# Altium footprint library HD_PCB_31.PcbLib: 26 footprints (part 2 of 2)
Each footprint in its own frame and in the unit in brackets; x right, y up, seen from the top. Pads: shape width x height; smd on the part's side, far side on the other; paste and mask are expansions set on the pad; w line width, h text height; cw(c..) or ccw(c..) is an arc to the next point about the centre after c.
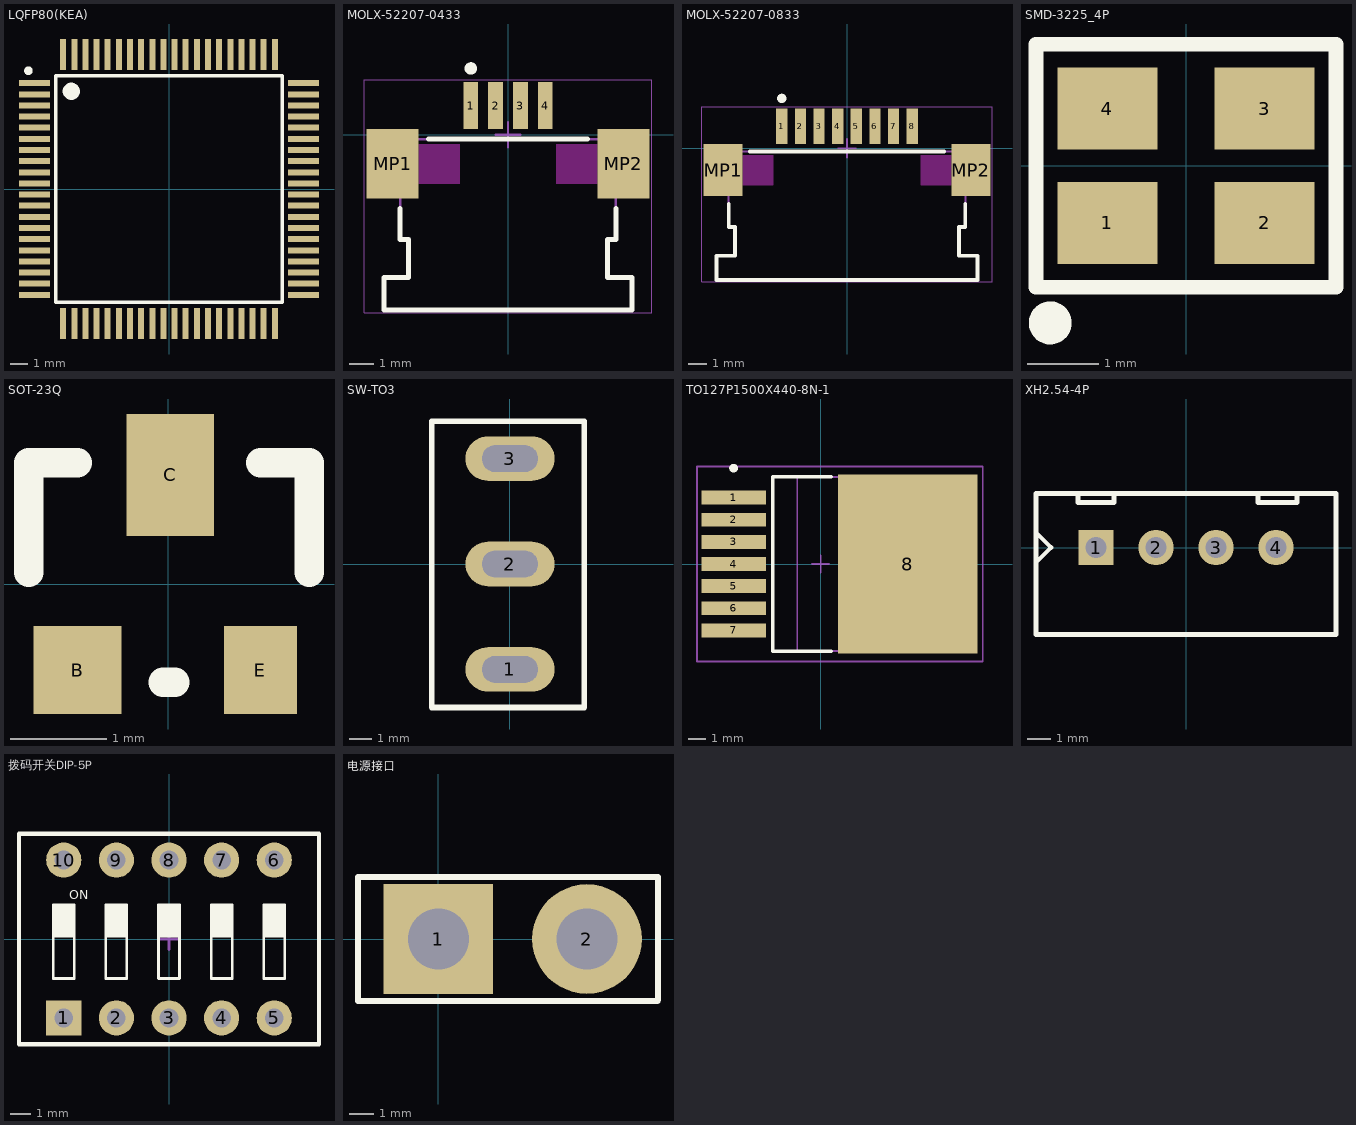
[diagram p1: the footprints below, top view; thin cyan lines are the x and y axes]

## LQFP80(KEA) [mm]
pads (80):
  rect 1.8x0.35 smd: 1(-7.85,6.175) 2(-7.85,5.525) 3(-7.85,4.875) 4(-7.85,4.225) 5(-7.85,3.575) 6(-7.85,2.925) 7(-7.85,2.275) 8(-7.85,1.625) 9(-7.85,0.975) 10(-7.85,0.325) 11(-7.85,-0.325) 12(-7.85,-0.975) 13(-7.85,-1.625) 14(-7.85,-2.275) 15(-7.85,-2.925) 16(-7.85,-3.575) 17(-7.85,-4.225) 18(-7.85,-4.875) 19(-7.85,-5.525) 20(-7.85,-6.175) 41(7.85,-6.175) 42(7.85,-5.525) 43(7.85,-4.875) 44(7.85,-4.225) 45(7.85,-3.575) 46(7.85,-2.925) 47(7.85,-2.275) 48(7.85,-1.625) 49(7.85,-0.975) 50(7.85,-0.325) 51(7.85,0.325) 52(7.85,0.975) 53(7.85,1.625) 54(7.85,2.275) 55(7.85,2.925) 56(7.85,3.575) 57(7.85,4.225) 58(7.85,4.875) 59(7.85,5.525) 60(7.85,6.175)
  rect 0.35x1.8 smd: 21(-6.175,-7.85) 22(-5.525,-7.85) 23(-4.875,-7.85) 24(-4.225,-7.85) 25(-3.575,-7.85) 26(-2.925,-7.85) 27(-2.275,-7.85) 28(-1.625,-7.85) 29(-0.975,-7.85) 30(-0.325,-7.85) 31(0.325,-7.85) 32(0.975,-7.85) 33(1.625,-7.85) 34(2.275,-7.85) 35(2.925,-7.85) 36(3.575,-7.85) 37(4.225,-7.85) 38(4.875,-7.85) 39(5.525,-7.85) 40(6.175,-7.85) 61(6.175,7.85) 62(5.525,7.85) 63(4.875,7.85) 64(4.225,7.85) 65(3.575,7.85) 66(2.925,7.85) 67(2.275,7.85) 68(1.625,7.85) 69(0.975,7.85) 70(0.325,7.85) 71(-0.325,7.85) 72(-0.975,7.85) 73(-1.625,7.85) 74(-2.275,7.85) 75(-2.925,7.85) 76(-3.575,7.85) 77(-4.225,7.85) 78(-4.875,7.85) 79(-5.525,7.85) 80(-6.175,7.85)
Top Overlay:
  circle w0.5: c-5.7,5.7 r0.25
  circle w0.25: c-8.2,6.9 r0.125
  lines w0.2: -6.6,-6.6 -6.6,6.6 6.6,6.6 6.6,-6.6 -6.6,-6.6
3D body "LQFP-80 14x14.STEP": height 1.5, standoff -0.09, extent -7.976,-8.008 8.034,8.001

## MOLX-52207-0433 [mm] "FPC Connector, 4-Leads, Right Angle, Pitch 1.0 mm, Mated Height 2.7 mm, SMT"
height 2.712
pads (6):
  rect 0.6x1.9 smd: 1(-1.5,1.175) 2(-0.5,1.175) 3(0.5,1.175) 4(1.5,1.175)
  rect 2.1x2.8 smd: MP1(-4.65,-1.175) MP2(4.65,-1.175)
Top Overlay:
  circle w0.25: c-1.5,2.675 r0.125
  lines w0.2: -4.35,-2.975 -4.35,-4.225 ; -3.2,-0.175 3.2,-0.175 ; 4.35,-2.975 4.35,-4.225 ; -4.35,-4.225 -4.013,-4.225 -4.012,-4.225 -4.012,-5.765 -5,-5.765 -5,-7.075 5,-7.075 5,-5.765 4.012,-5.765 4.012,-4.225 ; -4.35,-4.225 -4.35,-4.225 ; 4.013,-4.225 4.35,-4.225 ; 4.012,-4.225 4.013,-4.225 ; 4.35,-4.225 4.35,-4.225
Keep-Out Layer:
  region: -3.6,-0.375 -1.95,-0.375 -1.95,-1.975 -3.6,-1.975
  region: 3.6,-0.375 1.95,-0.375 1.95,-1.975 3.6,-1.975
Mechanical 13:
  lines w0.1: -5.15,-2.175 -5.15,-0.175 5.15,-0.175 5.15,-2.175 4.35,-2.175 4.35,-4.225 4.012,-4.225 4.012,-5.765 5,-5.765 5,-7.075 -5,-7.075 -5,-5.765 -4.012,-5.765 -4.012,-4.225 -4.35,-4.225 -4.35,-2.175 -5.15,-2.175
Mechanical 15:
  lines w0.05: -5.8,-7.175 -5.8,2.225 5.8,2.225 5.8,-7.175 -5.8,-7.175
  lines w0.1: -0.5,0 0.5,0 ; 0,-0.5 0,0.5
3D body "522070433.stp": height 2.71, standoff 0.01, extent -5.15,-7.075 5.15,1.825

## MOLX-52207-0833 [mm] "FPC Connector, 8-Leads, Right Angle, Pitch 1.0 mm, Mated Height 2.7 mm, SMT"
height 2.712
pads (10):
  rect 0.6x1.9 smd: 1(-3.5,1.175) 2(-2.5,1.175) 3(-1.5,1.175) 4(-0.5,1.175) 5(0.5,1.175) 6(1.5,1.175) 7(2.5,1.175) 8(3.5,1.175)
  rect 2.1x2.8 smd: MP1(-6.65,-1.175) MP2(6.65,-1.175)
Top Overlay:
  circle w0.25: c-3.5,2.675 r0.125
  lines w0.2: -6.35,-2.975 -6.35,-4.225 -6.013,-4.225 -6.012,-5.765 -7,-5.765 -7,-7.075 7,-7.075 7,-5.765 6.012,-5.765 6.012,-4.225 6.35,-4.225 6.35,-2.975 ; -5.2,-0.175 5.2,-0.175
Keep-Out Layer:
  region: -5.6,-0.375 -3.95,-0.375 -3.95,-1.975 -5.6,-1.975
  region: 5.6,-0.375 3.95,-0.375 3.95,-1.975 5.6,-1.975
Mechanical 13:
  lines w0.1: -7.15,-2.175 -7.15,-0.175 7.15,-0.175 7.15,-2.175 6.35,-2.175 6.35,-4.225 6.012,-4.225 6.012,-5.765 7,-5.765 7,-7.075 -7,-7.075 -7,-5.765 -6.012,-5.765 -6.012,-4.225 -6.35,-4.225 -6.35,-2.175 -7.15,-2.175
Mechanical 15:
  lines w0.05: -7.8,-7.175 -7.8,2.225 7.8,2.225 7.8,-7.175 -7.8,-7.175
  lines w0.1: -0.5,0 0.5,0 ; 0,-0.5 0,0.5
3D body "522070833.stp": height 2.71, standoff 0.01, extent -7.15,-7.075 7.15,1.825

## SMD-3225_4P [mm]
pads (4):
  rect 1.4x1.15 smd: 1(-1.1,-0.8) 2(1.1,-0.8) 3(1.1,0.8) 4(-1.1,0.8)
Top Overlay:
  circle w0.3: c-1.9,-2.2 r0.15
  lines w0.203: -2.1,-1.7 2.1,-1.7 2.1,1.7 -2.1,1.7 -2.1,-1.7
3D body "User Library-3225-1.STEP": height 0.61, standoff 0, extent -1.6,-1.25 1.6,1.25

## SOT-23Q [mil]
pads (3):
  rect 36x36 smd: B(-37.25,-35.28)
  rect 36x50 smd: C(0.75,44.72)
  rect 30x36 smd: E(37.75,-35.28)
Top Overlay:
  lines w12: -57.25,4.72 -57.25,49.72 -37.25,49.72 ; -2.25,-40.28 2.75,-40.28 ; 37.75,49.72 57.75,49.72 57.75,4.72
3D body "User Library-SOT-23-1.STEP": height 38.42, standoff -0.42, extent -57.46,-47.66 57.5,52.66

## SW-TO3 [mm]
height 2.38
pads (3):
  oval 4x2 hole 1.2 slot 2.5 at 0 deg: 1(0,-4.724) 2(0,0) 3(0,4.724)
Top Overlay:
  lines w0.254: -3.504,-6.433 -3.504,6.394 3.329,6.394 3.329,-6.433 -3.504,-6.433
3D body "7101SYZBE CK switch.step": height 28.55, standoff -3.83, extent -3.43,-6.363 3.43,6.35

## TO127P1500X440-8N-1 [mm] "TO,1.27mm pitch;7 pin,15.00mm L X 9.25mm W X 4.40mm H body"
height 4.4
pads (8):
  rect 3.7x0.8 smd paste+0 mask+0: 1(-5,3.81) 2(-5,2.54) 3(-5,1.27) 4(-5,0) 5(-5,-1.27) 6(-5,-2.54) 7(-5,-3.81)
  rect 8x10.25 smd paste+0 mask+0: 8(5,0)
Top Overlay:
  circle w0.25: c-5,5.5 r0.125
  lines w0.2: 0.6,-5 -2.75,-5 -2.75,5 0.6,5
Mechanical 3:
  text ".DESIGNATOR" at 0,0 h0.76
Mechanical 13:
  lines w0.1: -1.35,-5 -1.35,5 7.9,5 7.9,-5 -1.35,-5
Mechanical 15:
  lines w0.1: -0.5,0 0.5,0 ; 0,-0.5 0,0.5 ; -7.1,-5.6 -7.1,5.6 9.3,5.6 9.3,-5.6 -7.1,-5.6
3D body "PG-TO263-7-1_C66065-A6551-C014-05-0004.stp": height 4.51, standoff 0, extent -6.4,-5 8.55,5

## XH2.54-4P [mm] "XH2.54端子直针"
height 1.6
pads (4):
  rect 1.5x1.5 hole 0.9: 1(-3.81,0)
  round 1.5 hole 0.9: 2(-1.27,0) 3(1.27,0) 4(3.81,0)
Top Overlay:
  lines w0.2: -6.35,-0.635 -5.715,0 -6.35,0.635 ; -4.572,2.286 -4.572,1.905 -3.048,1.905 -3.048,2.286 ; 3.048,2.286 3.048,1.905 4.699,1.905 4.699,2.286 ; -6.35,-3.683 6.35,-3.683 6.35,2.286 -6.35,2.286 -6.35,-3.683
3D body: height 1.5, standoff 0, extent -6.223,-3.492 6.223,2.223

## 拨码开关DIP-5P [mm] "14.2*9.9*7mm"
pads (10):
  rect 1.7x1.7 hole 0.9: 1(-5.08,-3.81)
  round 1.7 hole 0.9: 2(-2.54,-3.81) 3(0,-3.81) 4(2.54,-3.81) 5(5.08,-3.81) 6(5.08,3.81) 7(2.54,3.81) 8(0,3.81) 9(-2.54,3.81) 10(-5.08,3.81)
Top Overlay:
  rectangle: 4.572,0.127 5.588,1.651
  rectangle: 2.032,0.127 3.048,1.651
  rectangle: -0.508,0.127 0.508,1.651
  rectangle: -3.048,0.127 -2.032,1.651
  rectangle: -5.588,0.127 -4.572,1.651
  lines w0.127: -5.588,0.127 -4.572,0.127 ; -3.048,0.127 -2.032,0.127 ; -0.508,0.127 0.508,0.127 ; 2.032,0.127 3.048,0.127 ; 4.572,0.127 5.588,0.127 ; -5.588,-1.905 -4.572,-1.905 -4.572,1.651 -5.588,1.651 -5.588,-1.905 ; -3.048,-1.905 -2.032,-1.905 -2.032,1.651 -3.048,1.651 -3.048,-1.905 ; -0.508,-1.905 0.508,-1.905 0.508,1.651 -0.508,1.651 -0.508,-1.905 ; 2.032,-1.905 3.048,-1.905 3.048,1.651 2.032,1.651 2.032,-1.905 ; 4.572,-1.905 5.588,-1.905 5.588,1.651 4.572,1.651 4.572,-1.905
  lines w0.2: -7.239,-5.08 7.239,-5.08 7.239,5.08 -7.239,5.08 -7.239,-5.08
  text "ON" at -4.826,1.778 h0.76
Mechanical 15:
  lines w0.15: -0.508,0 0.508,0 ; 0,-0.508 0,0.508
3D body "CSW DIP-5P.STEP": height 6.65, standoff -3.15, extent -7.13,-4.95 7.13,4.95

## 电源接口 [mm]
height 8.2
pads (2):
  rect 4.5x4.5 hole 2.5: 1(0,0)
  round 4.5 hole 2.5: 2(6.099,0)
Top Overlay:
  lines w0.254: 9,2.525 9.015,2.54 -3.302,2.54 -3.302,-2.54 8.985,-2.54 9.015,-2.51 9.015,2.51